# EAGLE library part ADL5387ACPZ-R7 (library Analog Devices)
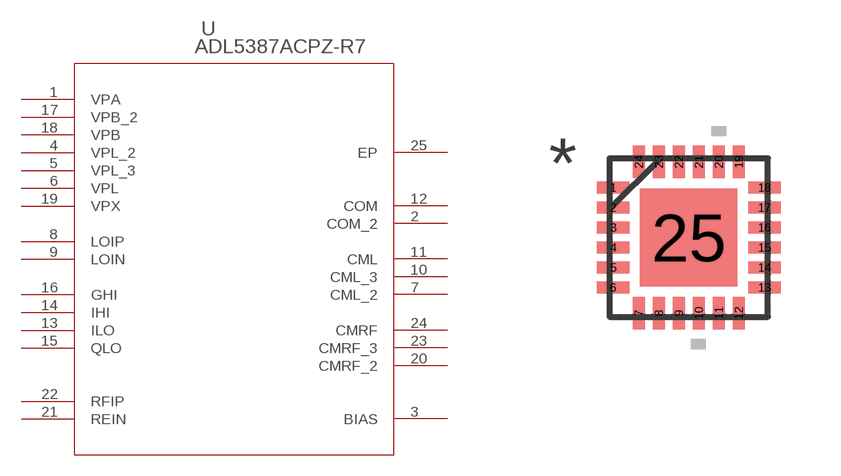
[diagram p9: symbol with the pads of CP_24_2; footprint CP_24_2]

Designator prefix U

## ADL5387ACPZ-R7  [CP_24_2]
1  VPA  pas
2  COM_2  pas
3  BIAS  pas
4  VPL_2  pas
5  VPL_3  pas
6  VPL  pas
7  CML_2  pas
8  LOIP  pas
9  LOIN  pas
10  CML_3  pas
11  CML  pas
12  COM  pas
13  ILO  pas
14  IHI  pas
15  QLO  pas
16  GHI  pas
17  VPB_2  pas
18  VPB  pas
19  VPX  pas
20  CMRF_2  pas
21  REIN  pas
22  RFIP  pas
23  CMRF_3  pas
24  CMRF  pas
25  EP  pas

## Footprint CP_24_2 (pad centres in mm)
smd 0.813 x 0.305: 1 -1.892,1.25; 2 -1.892,0.75; 3 -1.892,0.25; 4 -1.892,-0.25; 5 -1.892,-0.75; 6 -1.892,-1.25; 13 1.892,-1.25; 14 1.892,-0.75; 15 1.892,-0.25; 16 1.892,0.25; 17 1.892,0.75; 18 1.892,1.25
smd 0.305 x 0.813: 7 -1.25,-1.892; 8 -0.75,-1.892; 9 -0.25,-1.892; 10 0.25,-1.892; 11 0.75,-1.892; 12 1.25,-1.892; 19 1.25,1.892; 20 0.75,1.892; 21 0.25,1.892; 22 -0.25,1.892; 23 -0.75,1.892; 24 -1.25,1.892
smd 2.438 x 2.438: 25 0,0